# Altium schematic symbol library Ixora.SchLib: 333 symbols (part 3 of 3)
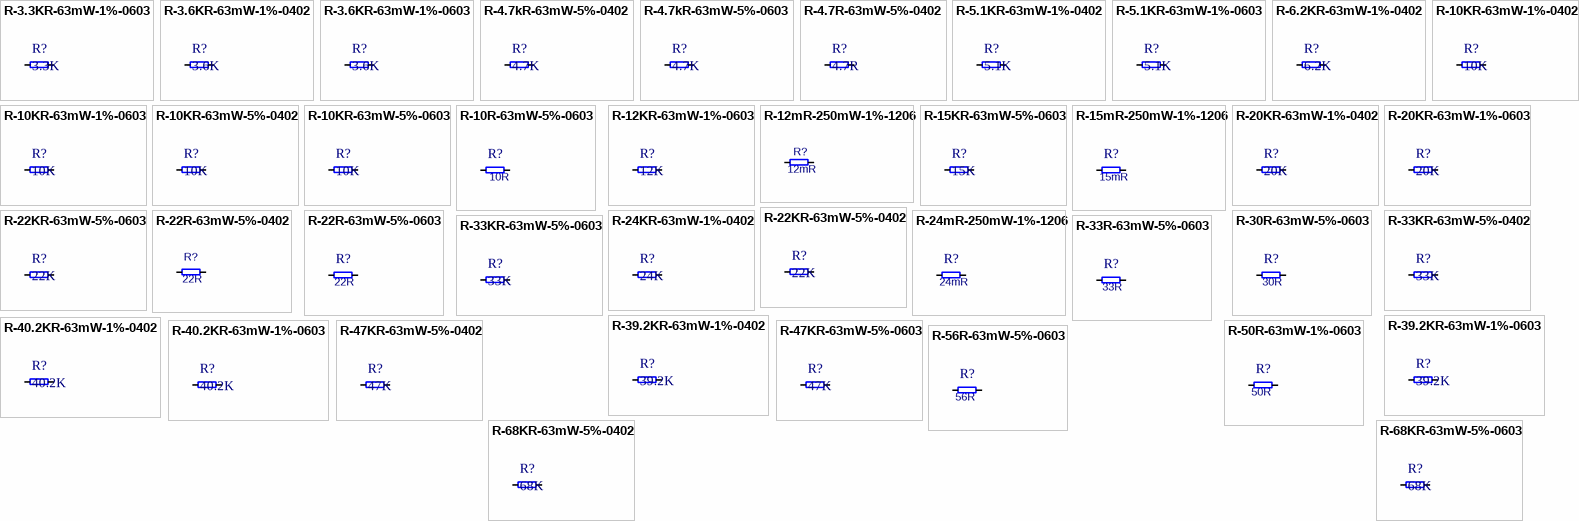
[diagram p24: symbols R-3.3KR-63mW-1%-0603 to R-68KR-63mW-5%-0603]

## R-33R-63mW-5%-0603
designator R?, comment 33R
Resistor 33 ohm 63mW 5% 0603; Rating: 63mW; Tolerance: 5%; Value: 33R
footprint SMD0603RES
pins: 1, 2

## R-39.2KR-63mW-1%-0402
designator R?, comment 39.2K
Resistor 39.2 Kohm 63mW 1% 0603; Value: 39.2KR; Rating: 63mW; Tolerance: 1%
footprint SMD0603RES
pins: 1, 2

## R-39.2KR-63mW-1%-0603
designator R?, comment 39.2K
Resistor 39.2 Kohm 63mW 1% 0603; Value: 39.2KR; Rating: 63mW; Tolerance: 1%
footprint SMD0603RES
pins: 1, 2

## R-40.2KR-63mW-1%-0402
designator R?, comment 40.2K
Resistor 40.2 Kohm 63mW 1% 0603; Value: 40.2KR; Rating: 63mW; Tolerance: 1%
footprint SMD0603RES
pins: 1, 2

## R-40.2KR-63mW-1%-0603
designator R?, comment 40.2K
Resistor 40.2 Kohm 63mW 1% 0603; Value: 40.2KR; Rating: 63mW; Tolerance: 1%
footprint SMD0603RES
pins: 1, 2

## R-47KR-63mW-5%-0402
designator R?, comment 47K
Resistor 47 Kohm 63mW 5% 0603; Value: 47KR; Rating: 63mW; Tolerance: 5%
footprint SMD0603RES
pins: 1, 2

## R-47KR-63mW-5%-0603
designator R?, comment 47K
Resistor 47 Kohm 63mW 5% 0603; Value: 47KR; Rating: 63mW; Tolerance: 5%
footprint SMD0603RES
pins: 1, 2

## R-50R-63mW-1%-0603
designator R?, comment 50R
Resistor 50 ohm 63mW 1% 0603; Rating: 63mW; Tolerance: 1%; Value: 50R
footprint SMD0603RES
pins: 1, 2

## R-56R-63mW-5%-0603
designator R?, comment 56R
Resistor 56 ohm 63mW 5% 0603; Rating: 63mW; Tolerance: 5%; Value: 56R
footprint SMD0603RES
pins: 1, 2

## R-68KR-63mW-5%-0402
designator R?, comment 68K
Resistor 68 Kohm 63mW 5% 0603; Value: 68KR; Rating: 63mW; Tolerance: 5%
footprint SMD0603RES
pins: 1, 2

## R-68KR-63mW-5%-0603
designator R?, comment 68K
Resistor 68 Kohm 63mW 5% 0603; Value: 68KR; Rating: 63mW; Tolerance: 5%
footprint SMD0603RES
pins: 1, 2

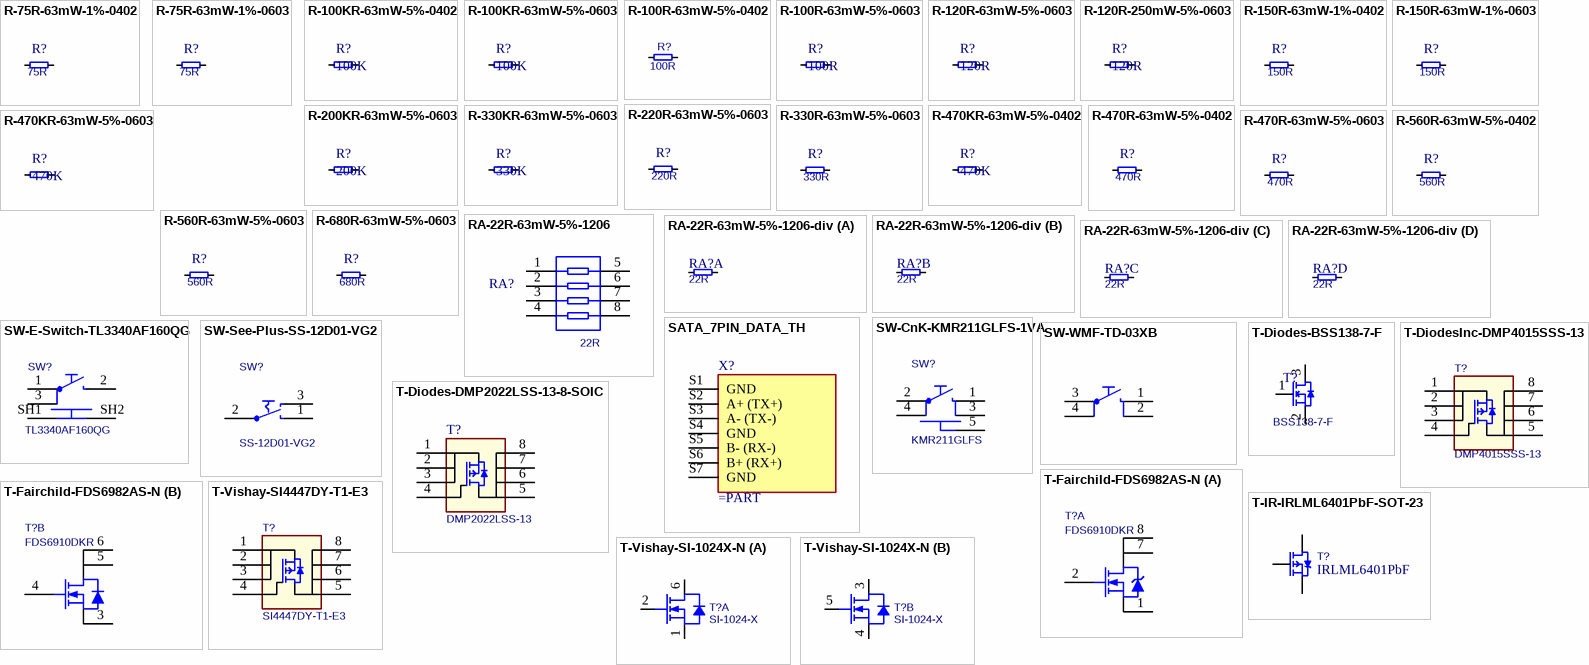
[diagram p21: symbols R-75R-63mW-1%-0402 to T-Vishay-SI-1024X-N]

## R-75R-63mW-1%-0402
designator R?, comment 75R
Resistor 75 ohm 63mW 1% 0603; Rating: 63mW; Tolerance: 1%; Value: 75R
footprint SMD0603RES
pins: 1, 2

## R-75R-63mW-1%-0603
designator R?, comment 75R
Resistor 75 ohm 63mW 1% 0603; Rating: 63mW; Tolerance: 1%; Value: 75R
footprint SMD0603RES
pins: 1, 2

## R-100KR-63mW-5%-0402
designator R?, comment 100K
Resistor 100 Kohm 63mW 5% 0603; Value: 100KR; Rating: 63mW; Tolerance: 5%
footprint SMD0603RES
pins: 1, 2

## R-100KR-63mW-5%-0603
designator R?, comment 100K
Resistor 100 Kohm 63mW 5% 0603; Value: 100KR; Rating: 63mW; Tolerance: 5%
footprint SMD0603RES
pins: 1, 2

## R-100R-63mW-5%-0402
designator R?, comment 100R
Resistor 100 ohm 63mW 5% 0603; Rating: 63mW; Tolerance: 5%; Value: 100R
footprint SMD0603RES
pins: 1, 2

## R-100R-63mW-5%-0603
designator R?, comment 100R
Resistor 100 ohm 63mW 5% 0603; Rating: 63mW; Tolerance: 5%; Value: 100R
footprint SMD0603RES
pins: 1, 2

## R-120R-63mW-5%-0603
designator R?, comment 120R
Resistor 120 ohm 63mW 5% 0603; Rating: 63mW; Tolerance: 5%; Value: 120R
footprint SMD0603RES
pins: 1, 2

## R-120R-250mW-5%-0603
designator R?, comment 120R
Resistor 120 ohm 250mW 5% 0603; Rating: 250mW; Tolerance: 5%; Value: 120R
footprint SMD0603RES
pins: 1, 2

## R-150R-63mW-1%-0402
designator R?, comment 150R
Resistor 150 ohm 63mW 1% 0603; Rating: 63mW; Tolerance: 1%; Value: 150R
footprint SMD0603RES
pins: 1, 2

## R-150R-63mW-1%-0603
designator R?, comment 150R
Resistor 150 ohm 63mW 1% 0603; Rating: 63mW; Tolerance: 1%; Value: 150R
footprint SMD0603RES
pins: 1, 2

## R-200KR-63mW-5%-0603
designator R?, comment 200K
Resistor 200 Kohm 63mW 5% 0603; Value: 200KR; Rating: 63mW; Tolerance: 5%
footprint SMD0603RES
pins: 1, 2

## R-220R-63mW-5%-0603
designator R?, comment 220R
Resistor 220 ohm 63mW 5% 0603; Rating: 63mW; Tolerance: 5%; Value: 220R
footprint SMD0603RES
pins: 1, 2

## R-330KR-63mW-5%-0603
designator R?, comment 330K
Resistor 330 Kohm 63mW 5% 0603; Value: 330KR; Rating: 63mW; Tolerance: 5%
footprint SMD0603RES
pins: 1, 2

## R-330R-63mW-5%-0603
designator R?, comment 330R
Resistor 330 ohm 63mW 5% 0603; Rating: 63mW; Tolerance: 5%; Value: 330R
footprint SMD0603RES
pins: 1, 2

## R-470KR-63mW-5%-0402
designator R?, comment 470K
Resistor 470 Kohm 63mW 5% 0603; Value: 470KR; Rating: 63mW; Tolerance: 5%
footprint SMD0603RES
pins: 1, 2

## R-470KR-63mW-5%-0603
designator R?, comment 470K
Resistor 470 Kohm 63mW 5% 0603; Value: 470KR; Rating: 63mW; Tolerance: 5%
footprint SMD0603RES
pins: 1, 2

## R-470R-63mW-5%-0402
designator R?, comment 470R
Resistor 470 ohm 63mW 5% 0603; Rating: 63mW; Tolerance: 5%; Value: 470R
footprint SMD0603RES
pins: 1, 2

## R-470R-63mW-5%-0603
designator R?, comment 470R
Resistor 470 ohm 63mW 5% 0603; Rating: 63mW; Tolerance: 5%; Value: 470R
footprint SMD0603RES
pins: 1, 2

## R-560R-63mW-5%-0402
designator R?, comment 560R
Resistor 560 ohm 63mW 5% 0603; Rating: 63mW; Tolerance: 5%; Value: 560R
footprint SMD0603RES
pins: 1, 2

## R-560R-63mW-5%-0603
designator R?, comment 560R
Resistor 560 ohm 63mW 5% 0603; Rating: 63mW; Tolerance: 5%; Value: 560R
footprint SMD0603RES
pins: 1, 2

## R-680R-63mW-5%-0603
designator R?, comment 680R
Resistor 680 ohm 63mW 5% 0603; Rating: 63mW; Tolerance: 5%; Value: 680R
footprint SMD0603RES
pins: 1, 2

## RA-22R-63mW-5%-1206
designator RA?, comment 22R
Resistor array 4 x 22R; Rating: 63mW; Tolerance: 5%; Value: 22R
footprint T_Resistor_Array_X4 (Resistor Array 0.8mm)
pins: 1, 2, 3, 4, 5, 6, 7, 8

## RA-22R-63mW-5%-1206-div
designator RA?, comment 22R
Resistor Array 22 R 63mW 5% 1206; Tolerance: 5%; Power Dissipation: 63mW; Value: 22R
footprint T_Resistor_Array_X4 (Resistor Array 0.8mm)
part A pins: 1, 5
part B pins: 2, 6
part C pins: 3, 7
part D pins: 4, 8

## SATA_7PIN_DATA_TH
designator X?
SATA RA  TH; Manufacturer Part No.: 67491-0020; Manufacturer Name: Molex; DIGIKEY: WM19148-ND
footprint T_Molex_67491-0020 (SATA connector TH)
pins: S1 GND (power), S2 A+ (TX+), S3 A- (TX-), S4 GND (power), S5 B- (RX-), S6 B+ (RX+), S7 GND (power)

## SW-CnK-KMR211GLFS-1VA
designator SW?, comment KMR211GLFS
Power ON Switch; Manufacturer Name: C&N; Rating: 1VA; Manufacturer Part No.: KMR211GLFS
footprint T_CnK_KMR211GLFS (Microminiature Tact Switch for SMT)
pins: 1, 2, 3, 4, 5

## SW-E-Switch-TL3340AF160QG
designator SW?, comment TL3340AF160QG
SWITCH TACT SUB MINI 160GF SMD Right Angle; Manufacturer Name: E-Switch; Manufacturer Part No.: TL3340AF160QG
footprint T_E-SWITCH- TL3340AF160QG (Footprint not found)
pins: 1, 2, 3, SH1, SH2

## SW-See-Plus-SS-12D01-VG2
designator SW?, comment SS-12D01-VG2
Switch; Manufacturer Name: See-Plus; Rating: 0.3A; Manufacturer Part No.: SS-12D01-VG2
footprint T_See-Plus_SS-12D01-VG2 (Slide Switch)
pins: 1, 2, 3

## SW-WMF-TD-03XB
designator SW?, comment TD-03XB
Push Button; Manufacturer Name: WMF; Rating: 50mA; Manufacturer Part No.: TD-03XB
footprint T_WMF_TD-03XB (Push Button)
pins: 1, 2, 3, 4

## T-Diodes-BSS138-7-F
designator T?, comment BSS138-7-F
N-channel MOSFET, BSS138-7-F; Manufacturer Name: Diodes; Manufacturer Part No.: BSS138-7-F
footprint SOT95P237X112-3N (SOT23, 3-Leads, Body 3.0x2.6mm (max), Pitch 0.95mm, IPC Medium Density)
pins: 1, 2, 3

## T-Diodes-DMP2022LSS-13-8-SOIC
designator T?, comment DMP2022LSS-13
p-channel MOSFET, DMP2022LSS-13; Manufacturer Name: DIODES; Manufacturer Part No.: DMP2022LSS-13
footprint SOIC127P600X173-8N
pins: 1 S, 2 S, 3 S, 4 G, 5 D, 6 D, 7 D, 8 D

## T-DiodesInc-DMP4015SSS-13
designator T?, comment DMP4015SSS-13
P-channel MOSFET, DMP4015SSS-13; Manufacturer Name: Diodes Inc; Manufacturer Part No.: DMP4015SSS-13
footprint SOIC127P600X173-8N
pins: 1 S, 2 S, 3 S, 4 G, 5 D, 6 D, 7 D, 8 D

## T-Fairchild-FDS6982AS-N
designator T?, comment FDS6910DKR
N-Channel PowerTrench SyncFET; Manufacturer Name: Fairchild; Manufacturer Part No.: FDS6910DKR
footprint SOIC127P600X173-8N
part A pins: 1 S, 2 G, 7 D, 8 D
part B pins: 3 S, 4 G, 5 D, 6 D

## T-IR-IRLML6401PbF-SOT-23
designator T?, comment IRLML6401PbF
p-channel MOSFET, IRLML6401PbF; Manufacturer Name: International Rectifier; Manufacturer Part No.: IRLML6401PbF
footprint SOT95P237X112-3N (SOT23, 3-Leads, Body 3.0x2.6mm (max), Pitch 0.95mm, IPC Medium Density)
pins: 1, 2, 3

## T-Vishay-SI4447DY-T1-E3
designator T?, comment SI4447DY-T1-E3
p-channel MOSFET, SI4447DY-T1-E3; Manufacturer Name: Vishay; Manufacturer Part No.: SI4447DY-T1-E3
footprint SOIC127P600X173-8N
pins: 1 S, 2 S, 3 S, 4 G, 5 D, 6 D, 7 D, 8 D

## T-Vishay-SI-1024X-N
designator T?  Manufacturer Part No.: SI-1024-X  (hidden comment: T-Vishay-SI-1024X-N)
Dual N-Channel 20V (D-S)  MOSFET; Manufacturer Name: Vishay
footprint SOTFL50P160X60-6N
part A pins: 1 S, 2 G, 6 D
part B pins: 3 D, 4 S, 5 G

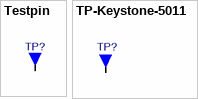
[diagram p22: symbols Testpin to TP-Keystone-5011]

## Testpin
designator TP?  (value not drawn)
Testpin TH
footprint T_TP-THT (Testpin TH)
pins: 1

## TP-Keystone-5011
designator TP?, comment 5011  (value not drawn)
Testpin Eye TH; Manufacturere Name: Keystone; Manufacturere Part No.: 5011
footprint T_TP-THT - EYE (Testpin TH)
pins: 1